# EAGLE library part 2540- (library EW_Connectors)
3M (TM) Pak 100 4-Wall Header Source: 3M
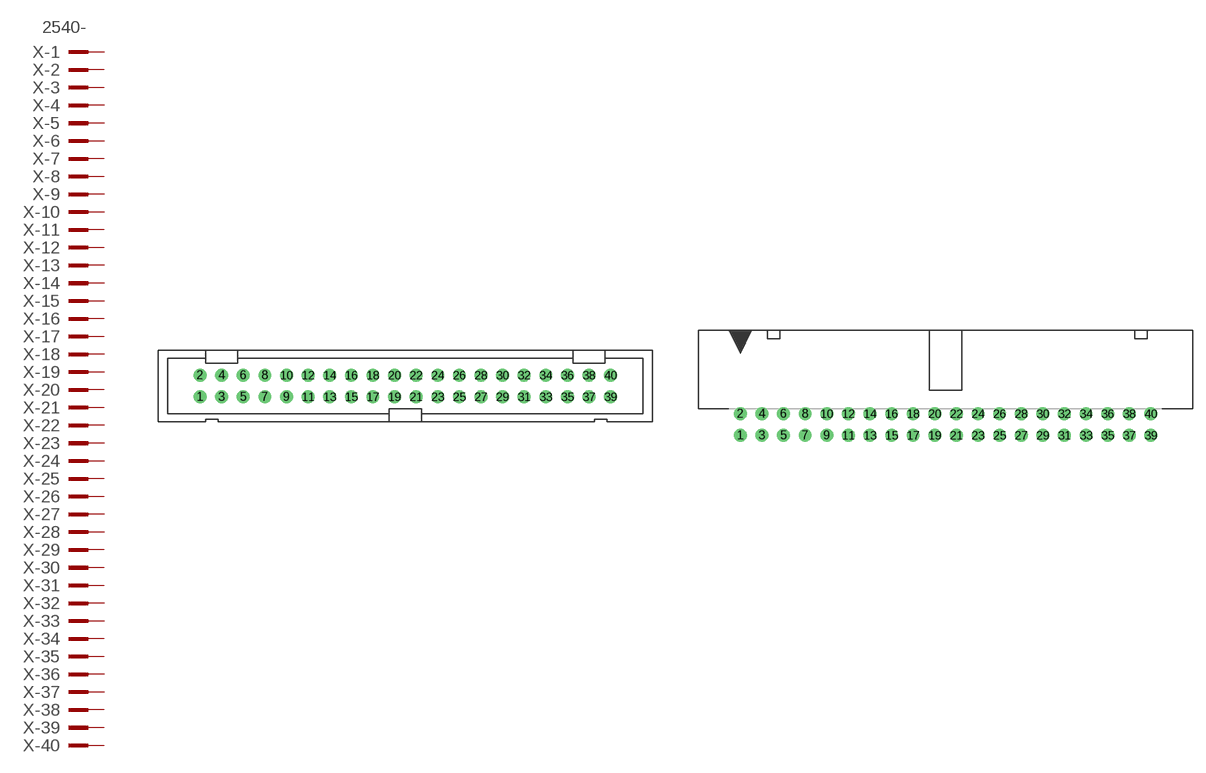
[diagram p99: symbol with the pads of PAK100/2500-40; footprints PAK100/2500-40, PAK100/2500-5-40]

Designator prefix X; gates -1=PINV-4 -2=PIN-4 -3=PIN-4 -4=PIN-4 -5=PIN-4 -6=PIN-4 -7=PIN-4 -8=PIN-4 -9=PIN-4 -10=PIN-4 -11=PIN-4 -12=PIN-4 -13=PIN-4 -14=PIN-4 -15=PIN-4 -16=PIN-4 -17=PIN-4 -18=PIN-4 -19=PIN-4 -20=PIN-4 -21=PIN-4 -22=PIN-4 -23=PIN-4 -24=PIN-4 -25=PIN-4 -26=PIN-4 -27=PIN-4 -28=PIN-4 -29=PIN-4 -30=PIN-4 -31=PIN-4 -32=PIN-4 -33=PIN-4 -34=PIN-4 -35=PIN-4 -36=PIN-4 -37=PIN-4 -38=PIN-4 -39=PIN-4 -40=PIN-4

## 2540- (OC_FARNELL: unknown; OC_NEWARK: unknown)  [PAK100/2500-40]
1  -1:KL  pas
2  -2:KL  pas
3  -3:KL  pas
4  -4:KL  pas
5  -5:KL  pas
6  -6:KL  pas
7  -7:KL  pas
8  -8:KL  pas
9  -9:KL  pas
10  -10:KL  pas
11  -11:KL  pas
12  -12:KL  pas
13  -13:KL  pas
14  -14:KL  pas
15  -15:KL  pas
16  -16:KL  pas
17  -17:KL  pas
18  -18:KL  pas
19  -19:KL  pas
20  -20:KL  pas
21  -21:KL  pas
22  -22:KL  pas
23  -23:KL  pas
24  -24:KL  pas
25  -25:KL  pas
26  -26:KL  pas
27  -27:KL  pas
28  -28:KL  pas
29  -29:KL  pas
30  -30:KL  pas
31  -31:KL  pas
32  -32:KL  pas
33  -33:KL  pas
34  -34:KL  pas
35  -35:KL  pas
36  -36:KL  pas
37  -37:KL  pas
38  -38:KL  pas
39  -39:KL  pas
40  -40:KL  pas

## 2540-5 (OC_FARNELL: 9838414; OC_NEWARK: unknown)  [PAK100/2500-5-40]
Pads as for PAK100/2500-40

## Footprint PAK100/2500-40 (pad centres in mm)
3M (TM) Pak 100 4-Wall Header Straight Source: 3M
drill 1 pad 1.422: 1 -24.13,-1.27; 2 -24.13,1.27; 3 -21.59,-1.27; 4 -21.59,1.27; 5 -19.05,-1.27; 6 -19.05,1.27; 7 -16.51,-1.27; 8 -16.51,1.27; 9 -13.97,-1.27; 10 -13.97,1.27; 11 -11.43,-1.27; 12 -11.43,1.27; 13 -8.89,-1.27; 14 -8.89,1.27; 15 -6.35,-1.27; 16 -6.35,1.27; 17 -3.81,-1.27; 18 -3.81,1.27; 19 -1.27,-1.27; 20 -1.27,1.27; 21 1.27,-1.27; 22 1.27,1.27; 23 3.81,-1.27; 24 3.81,1.27; 25 6.35,-1.27; 26 6.35,1.27; 27 8.89,-1.27; 28 8.89,1.27; 29 11.43,-1.27; 30 11.43,1.27; 31 13.97,-1.27; 32 13.97,1.27; 33 16.51,-1.27; 34 16.51,1.27; 35 19.05,-1.27; 36 19.05,1.27; 37 21.59,-1.27; 38 21.59,1.27; 39 24.13,-1.27; 40 24.13,1.27

## Footprint PAK100/2500-5-40 (pad centres in mm)
3M (TM) Pak 100 4-Wall Header Right Angle Source: 3M
drill 1 pad 1.422: 1 -24.13,-1.27; 2 -24.13,1.27; 3 -21.59,-1.27; 4 -21.59,1.27; 5 -19.05,-1.27; 6 -19.05,1.27; 7 -16.51,-1.27; 8 -16.51,1.27; 9 -13.97,-1.27; 10 -13.97,1.27; 11 -11.43,-1.27; 12 -11.43,1.27; 13 -8.89,-1.27; 14 -8.89,1.27; 15 -6.35,-1.27; 16 -6.35,1.27; 17 -3.81,-1.27; 18 -3.81,1.27; 19 -1.27,-1.27; 20 -1.27,1.27; 21 1.27,-1.27; 22 1.27,1.27; 23 3.81,-1.27; 24 3.81,1.27; 25 6.35,-1.27; 26 6.35,1.27; 27 8.89,-1.27; 28 8.89,1.27; 29 11.43,-1.27; 30 11.43,1.27; 31 13.97,-1.27; 32 13.97,1.27; 33 16.51,-1.27; 34 16.51,1.27; 35 19.05,-1.27; 36 19.05,1.27; 37 21.59,-1.27; 38 21.59,1.27; 39 24.13,-1.27; 40 24.13,1.27